# EAGLE library part DUAL_OPTOISOLATOR_LOGIC_OC (library everykey)
Dual Optoisolator, logic open collector output, e.g. Fairchild HCPL062N (SOIC8-150).
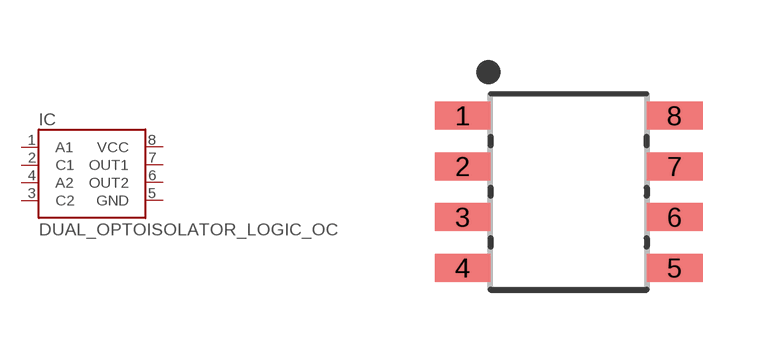
[diagram p59: symbol with the pads of SOIC8-150MIL; footprint SOIC8-150MIL]

Designator prefix IC

## DUAL_OPTOISOLATOR_LOGIC_OCFAIRCHILD_HCPL062N  [SOIC8-150MIL]
1  A1  in
2  C1  in
3  C2  in
4  A2  in
5  GND  pwr
6  OUT2  oc
7  OUT1  oc
8  VCC  pwr

## Footprint SOIC8-150MIL (pad centres in mm)
SOIC-8 package for 150mil (3.8-4mm) wide body.
smd 1.4 x 0.7: 1 -2.65,1.905; 2 -2.65,0.635; 3 -2.65,-0.635; 4 -2.65,-1.905; 5 2.65,-1.905; 6 2.65,-0.635; 7 2.65,0.635; 8 2.65,1.905